# Altium schematic symbol library XT30.SchLib: 1 symbol
Pins are listed as number, name and electrical type; pins without a type are passive.

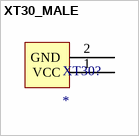
[diagram p0: symbol XT30_MALE]

## XT30_MALE
designator XT30?
footprint PCBComponent_1
pins: 1 VCC, 2 GND